# Altium schematic symbol library Sensor_Glove-X02.SchLib: 43 symbols
Pins are listed as number, name and electrical type; pins without a type are passive.

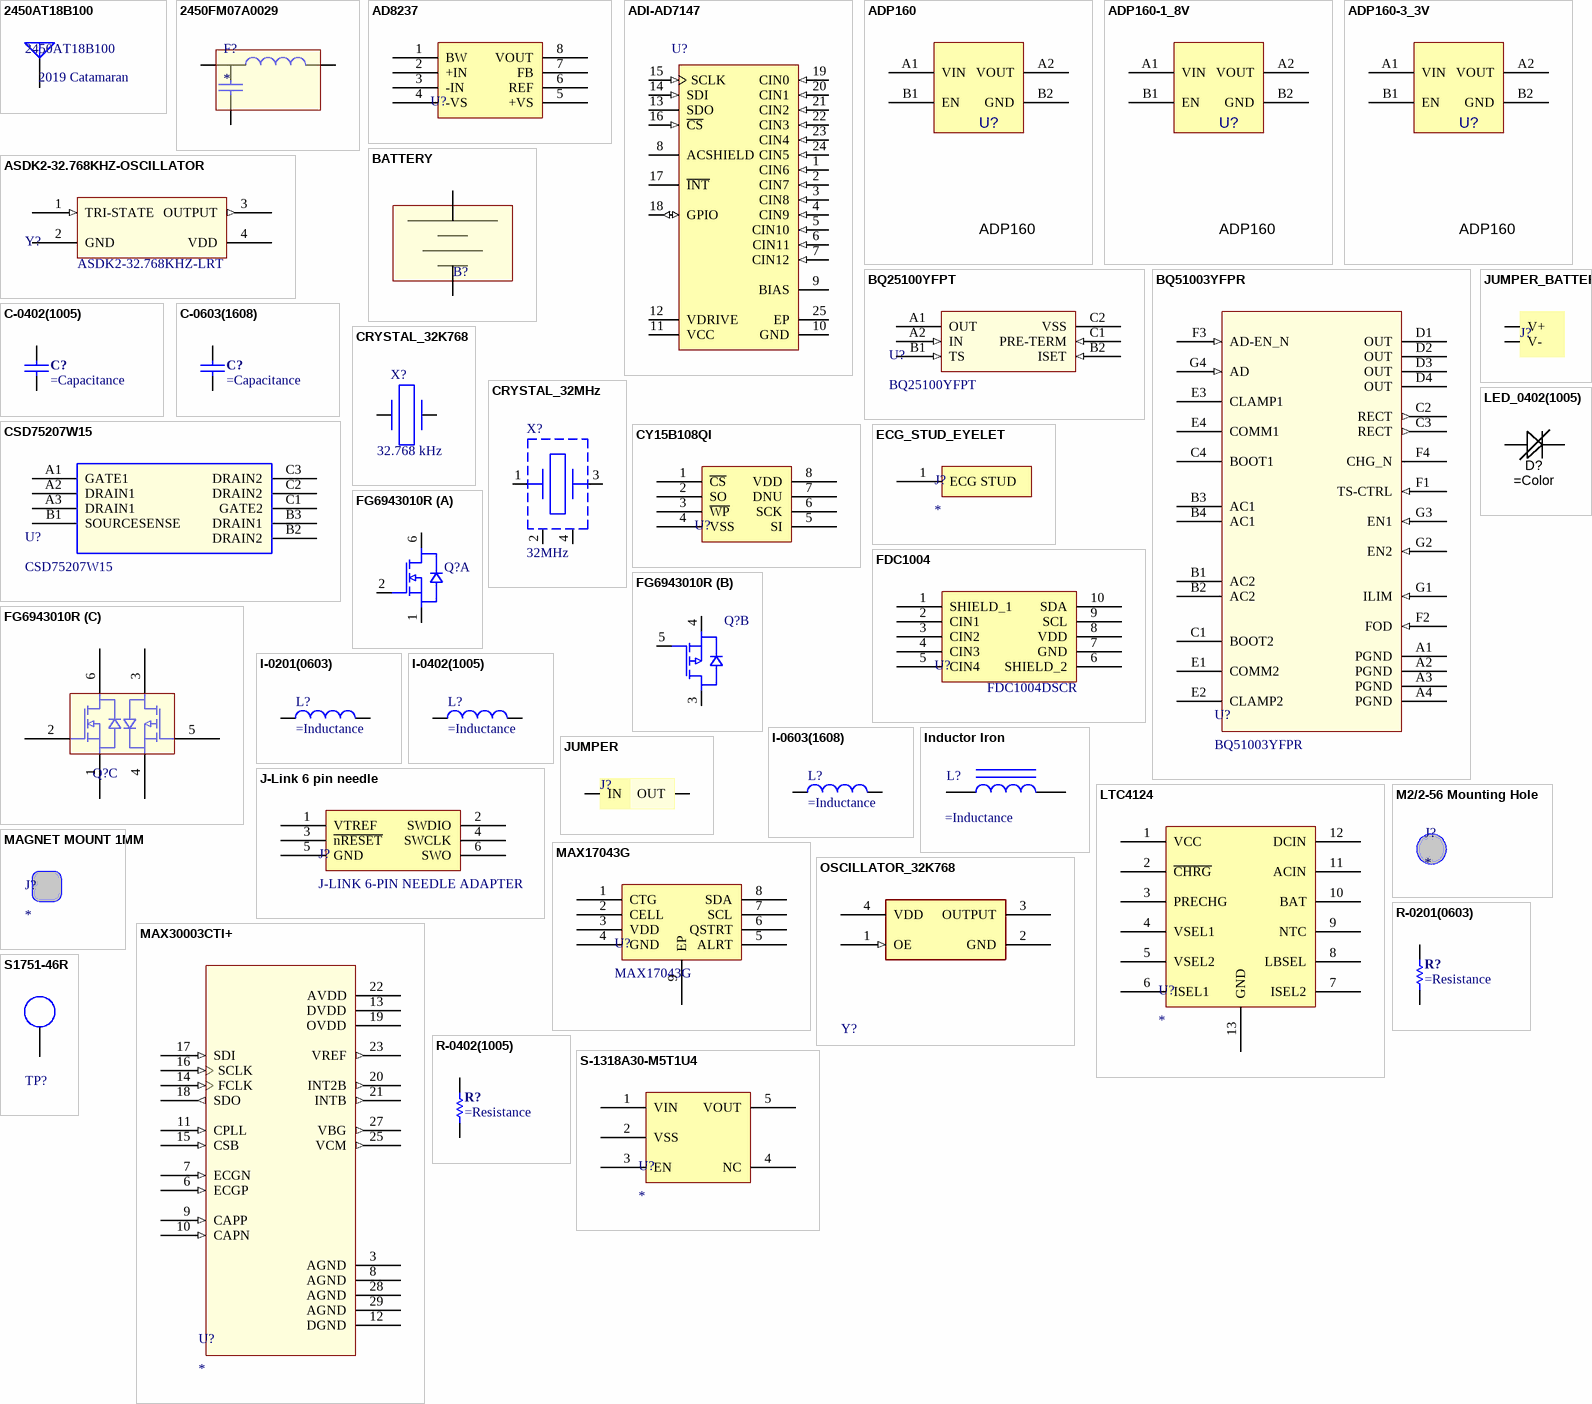
[diagram p0: symbols 2450AT18B100 to S-1318A30-M5T1U4]

## 2450AT18B100
designator 2019 Catamaran
2.4 GHz BLE Antenna; Manufacturer: Johanson; Manufacturer Part Number: 2450AT18B100E; Description 1: JOHANSON TECHNOLOGY         2450AT18B100E             ANTENNA, CERAMIC, 2.45GHZ; Impedance: 50R; Bandwidth: 100MHz; Power Rating: 3W; Frequency: 2.45GHz; Number of Bands: 1; Return Loss: -9.5dB; Max Frequency: 2.5GHz; Gain: -0.5dB; Supplier 1: Digi-Key; Supplier Part Number 1: 712-1006-1-ND; Stock 1: 187598; Pricing 1: 1=0.62, 10=0.541, 25=0.4788, 100=0.4172, 250=0.3631, 500=0.309, 1000=0.2472 (USD); Mount: Surface Mount; Case/Package: CSMD; Contact Plating: Tin; Packaging: Tape and Reel; Package Quantity: 1; Max Power Dissipation: 3W; Termination: Solder; Length: 3.2mm; Height: 0.051inch; Width: 1.6mm; REACH SVHC: No SVHC; ComponentLink1URL: https://datasheet.ciiva.com/1124/1318299-1124918.pdf; ComponentLink1Description: https://datasheet.ciiva.com/1124/1318299-1124918.pdf; ComponentLink2URL: https://datasheet.ciiva.com/24025/antenna-2450at18b100-242422-24025839.pdf; ComponentLink2Description: https://datasheet.ciiva.com/24025/antenna-2450at18b100-242422-24025839.pdf
footprint 2450AT18B100 (2.4GHz Mini Antenna SMD, 50 ohm Resistence)
pins: 1 A

## 2450FM07A0029
designator F?
Ceramic LPF; Manufacturer: Johanson; Manufacturer Part Number: 2450FM07A0029T; Supplier 1: Digi-Key; Supplier Part Number 1: 712-1623-1-ND; RoHS: No; Stock 1: 185913; Pricing 1: 1=0.26000, 10=0.23200, 25=0.21000, 100=0.18380, 250=0.16124, 500=0.14250, 1000=0.11250 (USD); Filter Type: CERAMIC LPF; REACH SVHC: Yes; RoHS Compliant: No; ComponentLink1URL: https://datasheet.ciiva.com:443/pdfs/VipMasterIC/IC/JOHA/JOHA-S-A0003593257/JOHA-S-A0003593257-1.pdf?src-supplier=IHS+Markit; ComponentLink1Description: https://datasheet.ciiva.com:443/pdfs/VipMasterIC/IC/JOHA/JOHA-S-A0003593257/JOHA-S-A0003593257-1.pdf?src-supplier=IHS+Markit; ComponentLink2URL: https://www.johansontechnology.com/datasheets/baluns/2450FM07A0029.pdf?src-supplier=Mouser; ComponentLink2Description: https://www.johansontechnology.com/datasheets/baluns/2450FM07A0029.pdf?src-supplier=Mouser; ComponentLink3URL: https://www.johansontechnology.com/datasheets/2450FM07A0029/2450FM07A0029.pdf?src-supplier=Digi-Key; ComponentLink3Description: https://www.johansontechnology.com/datasheets/2450FM07A0029/2450FM07A0029.pdf?src-supplier=Digi-Key
footprint 2450FM07A0029 (Ultra Miniature 2.45 GHz Impedance Matched Low Pass Filter for nRF52832)
pins: 1, 2, 3

## AD8237
designator U?, comment Instrumentation Amplifier  (value not drawn)
Instrumentation Amplifier, 1 Func, 75uV Offset-Max, 0.2MHz Band Width, CMOS, PDSO8; Manufacturer: Analog Devices; Manufacturer Part Number: AD8237ARMZ-R7; Common Mode Rejection Ratio: 106dB; Slew Rate: 0.15V/µs; Number of Channels: 1; Max Supply Voltage: 5.5V; Nominal Supply Current: 115uA; Input Bias Current: 250pA; Min Supply Voltage: 1.8V; Output Current per Channel: 4mA; Voltage Gain: 60dB; Bandwidth: 20kHz; -3db Bandwidth: 200kHz; Supplier 1: Digi-Key; Supplier Part Number 1: AD8237ARMZ-R7CT-ND; RoHS: Yes; Category: Amplifiers - Op Amps, Buffer, Instrumentation; Stock 1: 18084; Pricing 1: 1=2.68000, 10=2.40400, 25=2.27240, 100=1.86850, 250=1.67660, 500=1.61600 (USD); Mount: Surface Mount; Case/Package: MSOP; Number of Pins: 8; Contact Plating: Tin,Matte; Min Operating Temperature: -40°C; Max Operating Temperature: 125°C; Input Offset Voltage (Vos): 75uV; Packaging: Tape and Reel; Package Quantity: 1; Number of Circuits: 1; Operating Supply Current: 115uA; Number of Elements: 1; Lead Free: Contains Lead; ComponentLink1URL: https://datasheet.ciiva.com:443/pdfs/VipMasterIC/IC/ANDI/ANDIS13412/ANDIS13412-1.pdf?src-supplier=IHS+Markit; ComponentLink1Description: https://datasheet.ciiva.com:443/pdfs/VipMasterIC/IC/ANDI/ANDIS13412/ANDIS13412-1.pdf?src-supplier=IHS+Markit; ComponentLink2URL: https://datasheet.ciiva.com/6626/ad8237-6626733.pdf?src-supplier=Digi-Key; ComponentLink2Description: https://datasheet.ciiva.com/6626/ad8237-6626733.pdf?src-supplier=Digi-Key; ComponentLink3URL: https://datasheet.ciiva.com/8582/ad8237-8582303.pdf?src-supplier=Avnet; ComponentLink3Description: https://datasheet.ciiva.com/8582/ad8237-8582303.pdf?src-supplier=Avnet
footprint 8-MSOP (TSOP, 8-Leads, Body 3.1x3.1mm, Pitch 0.65mm, IPC Low Density)
pins: 1 BW, 2 +IN, 3 -IN, 4 -VS, 5 +VS, 6 REF, 7 FB, 8 VOUT

## ADI-AD7147
designator U?, comment CDC  (value not drawn)
Manufacturer: Analog Devices Inc.; Manufacturer Part Number: AD7147PACPZ-500R7; Resolution (Bits): 16 b; Sampling Rate (Per Second): 250k; Data Interface: SPI; Voltage Supply Source: Single Supply; Voltage - Supply: 2.6 V ~ 3.6 V; Supplier 1: Digi-Key; RoHS: RoHS Compliant; Category: Integrated Circuits (ICs); Stock 1: 559; Pricing 1: 1=3.6, 10=3.236, 100=2.6512 (USD); Packaging: Cut Tape (CT); Part Status: Active; Type: Capacitance-to-Digital Converter; Operating Temperature: -40°C ~ 85°C; Mounting Type: Surface Mount; Package / Case: 24-WFQFN Exposed Pad, CSP; Supplier Device Package: 24-LFCSP-WQ (4x4); ComponentLink1URL: http://www.analog.com/media/en/technical-documentation/data-sheets/AD7147.pdf; ComponentLink1Description: http://www.analog.com/media/en/technical-documentation/data-sheets/AD7147.pdf; Supplier Part Number 1: AD7147PACPZ-500R7CT-ND
footprint LFCSP_WQ (QFN, 24-Leads, Body 4x4mm, Pitch 0.5mm, Thermal Pad 2.5x2.5mm, IPC Medium Density)
pins: 1 CIN6 (in) "Capacitance Sensor Input.", 2 CIN7 (in) "Capacitance Sensor Input.", 3 CIN8 (in) "Capacitance Sensor Input.", 4 CIN9 (in) "Capacitance Sensor Input.", 5 CIN10 (in) "Capacitance Sensor Input.", 6 CIN11 (in) "Capacitance Sensor Input.", 7 CIN12 (in) "Capacitance Sensor Input.", 8 ACSHIELD "CDC Active Shield Output. Connect to external shield or plane.", 9 BIAS "Bias Node for Internal Circuitry. Requires 100 nF capacitor to ground.", 10 GND (power) "Ground Reference Point for All Circuitry.", 11 VCC (power) "Supply Voltage.", 12 VDRIVE (power) "Serial Interface Operating Voltage Supply.", 13 SDO (hiz) "SPI Serial Data Output.", 14 SDI (in) "SPI Serial Data Input.", 15 SCLK (in) "Clock Input for Serial Interface.", 16 ~{CS} (in) "SPI Chip Select Signal.", 17 ~{INT} (oc) "General-Purpose Open-Drain Interrupt Output. Programmable polarity; requires pull-up resistor.", 18 GPIO (io) "Programmable GPIO.", 19 CIN0 (in) "Capacitance Sensor Input.", 20 CIN1 (in) "Capacitance Sensor Input.", 21 CIN2 (in) "Capacitance Sensor Input.", 22 CIN3 (in) "Capacitance Sensor Input.", 23 CIN4 (in) "Capacitance Sensor Input.", 24 CIN5 (in) "Capacitance Sensor Input.", 25 EP (power) "Capacitance Sensor Input."

## ADP160
designator U?
3V LDO; Manufacturer: Analog Devices; Manufacturer Part Number: ADP160ACBZ-3.0-R7; Description 2: LDO Regulator Pos 3V 0.15A 4-Pin WLCSP T/R; Dropout Voltage: 105mV; Output Current: 150mA; Max Input Voltage: 5.5V; Min Input Voltage: 2.2V; Number of Outputs: 1; Min Current Limit: 220mA; Polarity: Positive; Accuracy: 2%; Nominal Supply Current: 42uA; Quiescent Current: 0pA; Power Supply Rejection Ratio (PSRR): 60dB; Min Output Voltage: 1.2V; Max Output Voltage: 4.2V; Supplier Part Number 1: ADP172ACBZ-3.0-R7CT-ND; Supplier 2: Digi-Key; Supplier Part Number 2: ADP160ACBZ-3.0-R7CT-ND; Stock 2: 5241; Pricing 2: 1=1.16, 10=1.033, 100=0.8055, 500=0.6654, 1000=0.5253 (USD); Mount: Surface Mount; Number of Pins: 4; Contact Plating: Copper,Tin,Silver; Min Operating Temperature: -40°C; Max Operating Temperature: 125°C; Package Quantity: 3000; Packaging: Tape and Reel; Max Output Current: 150mA; Output Voltage: 3V; Number of Regulators: 1; Operating Supply Current: 42uA; Max Supply Current: 42uA; Radiation Hardening: No; Lead Free: Contains Lead; ComponentLink1URL: https://datasheet.ciiva.com/8242/adp160-161-162-163-8242023.pdf; ComponentLink1Description: https://datasheet.ciiva.com/8242/adp160-161-162-163-8242023.pdf; ComponentLink2URL: https://datasheet.ciiva.com/3224/adp160-161-162-163-3224664.pdf; ComponentLink2Description: https://datasheet.ciiva.com/3224/adp160-161-162-163-3224664.pdf; ComponentLink3URL: https://datasheet.ciiva.com/17365/adp160-161-162-163-17365674.pdf; ComponentLink3Description: https://datasheet.ciiva.com/17365/adp160-161-162-163-17365674.pdf
footprint ADP160 (4-Ball WLCSP, CB-4-4)
pins: A1 VIN, A2 VOUT, B1 EN, B2 GND

## ADP160-1_8V
designator U?, comment ADP160
Fixed Positive LDO Regulator, 1.8V, 0.195V Dropout, CMOS, PBGA4; Manufacturer: Analog Devices; Manufacturer Part Number: ADP160ACBZ-1.8-R7; Max Output Current: 150mA; Min Input Voltage: 2.2V; Max Input Voltage: 5.5V; Number of Outputs: 1; Operating Supply Current: 42uA; Min Output Voltage: 1.2V; Max Output Voltage: 4.2V; Accuracy: 2%; Power Supply Rejection Ratio (PSRR): 60dB; Min Current Limit: 220mA; Quiescent Current: 0pA; Supplier 1: Digi-Key; Supplier Part Number 1: ADP160ACBZ-1.8-R7CT-ND; RoHS: Yes; Category: Voltage Regulators - Linear; Stock 1: 5770; Pricing 1: 1=1.12000, 10=1.00300, 25=0.95200, 100=0.73100, 250=0.64600, 500=0.61200, 1000=0.49300 (USD); Mount: Surface Mount; Number of Pins: 4; Contact Plating: Copper,Tin,Silver; Min Operating Temperature: -40°C; Max Operating Temperature: 125°C; Output Voltage: 1.8V; Packaging: Tape and Reel; Output Current: 150mA; Nominal Supply Current: 42uA; Output Type: Fixed; Polarity: Positive; Max Supply Current: 42uA; Number of Regulators: 1; Package Quantity: 1; Output Voltage Accuracy: 2%; Length: 1mm; Height: 0.37mm; Width: 1mm; Radiation Hardening: No; Lead Free: Contains Lead; ComponentLink1URL: https://datasheet.ciiva.com:443/pdfs/VipMasterIC/IC/ANDI/ANDI-S-A0005865400/ANDI-S-A0005865400-1.pdf?src-supplier=IHS+Markit; ComponentLink1Description: https://datasheet.ciiva.com:443/pdfs/VipMasterIC/IC/ANDI/ANDI-S-A0005865400/ANDI-S-A0005865400-1.pdf?src-supplier=IHS+Markit; ComponentLink2URL: https://datasheet.ciiva.com/15270/adp160-161-162-163-15270706.pdf?src-supplier=Arrow+Europe; ComponentLink2Description: https://datasheet.ciiva.com/15270/adp160-161-162-163-15270706.pdf?src-supplier=Arrow+Europe; ComponentLink3URL: https://datasheet.ciiva.com/18552/adp160-161-162-163-18552055.pdf?src-supplier=Digi-Key; ComponentLink3Description: https://datasheet.ciiva.com/18552/adp160-161-162-163-18552055.pdf?src-supplier=Digi-Key; ComponentLink4URL: https://datasheet.ciiva.com/18552/adp160-161-162-163-18552056.pdf?src-supplier=Digi-Key; ComponentLink4Description: https://datasheet.ciiva.com/18552/adp160-161-162-163-18552056.pdf?src-supplier=Digi-Key; ComponentLink5URL: https://datasheet.ciiva.com/18552/adp160-161-162-163-18552054.pdf?src-supplier=Digi-Key; ComponentLink5Description: https://datasheet.ciiva.com/18552/adp160-161-162-163-18552054.pdf?src-supplier=Digi-Key; ComponentLink6URL: https://datasheet.ciiva.com/3224/adp160-161-162-163-3224663.pdf?src-supplier=Avnet; ComponentLink6Description: https://datasheet.ciiva.com/3224/adp160-161-162-163-3224663.pdf?src-supplier=Avnet
footprint ADP160 (4-Ball WLCSP, CB-4-4)
pins: A1 VIN, A2 VOUT, B1 EN, B2 GND

## ADP160-3_3V
designator U?, comment ADP160
Fixed Positive LDO Regulator, 3.3V, 0.195V Dropout, CMOS, PBGA4; Manufacturer: Analog Devices; Manufacturer Part Number: ADP160ACBZ-3.3-R7; Min Input Voltage: 2.2V; Max Input Voltage: 5.5V; Max Output Current: 150mA; Nominal Supply Current: 42uA; Number of Outputs: 1; Min Output Voltage: 1.2V; Max Output Voltage: 4.2V; Power Supply Rejection Ratio (PSRR): 60dB; Accuracy: 2%; Dropout Voltage: 105mV; Min Current Limit: 220mA; Supplier 1: Digi-Key; Supplier Part Number 1: ADP160ACBZ-3.3-R7CT-ND; RoHS: Yes; Category: Voltage Regulators - Linear; Pricing 1: 1=1.12000, 10=1.00300, 25=0.95200, 100=0.73100, 250=0.64600, 500=0.61200, 1000=0.49300 (USD); Mount: Surface Mount; Number of Pins: 4; Min Operating Temperature: -40°C; Max Operating Temperature: 125°C; Output Voltage: 3.3V; Packaging: Tape and Reel; Operating Supply Current: 42uA; Package Quantity: 3000; Output Current: 150mA; Output Type: Fixed; Max Supply Current: 42uA; Polarity: Positive; Number of Regulators: 1; Nominal Output Voltage: 3.3V; Output Voltage Accuracy: 2%; Radiation Hardening: No; REACH SVHC: No SVHC; Lead Free: Contains Lead; ComponentLink1URL: https://datasheet.ciiva.com:443/pdfs/VipMasterIC/IC/ANDI/ANDI-S-A0005865400/ANDI-S-A0005865400-1.pdf?src-supplier=IHS+Markit; ComponentLink1Description: https://datasheet.ciiva.com:443/pdfs/VipMasterIC/IC/ANDI/ANDI-S-A0005865400/ANDI-S-A0005865400-1.pdf?src-supplier=IHS+Markit; ComponentLink2URL: https://datasheet.ciiva.com/15271/adp160-161-162-163-15271721.pdf?src-supplier=Arrow+Europe; ComponentLink2Description: https://datasheet.ciiva.com/15271/adp160-161-162-163-15271721.pdf?src-supplier=Arrow+Europe; ComponentLink3URL: https://datasheet.ciiva.com/8242/adp160-161-162-163-8242024.pdf?src-supplier=Avnet; ComponentLink3Description: https://datasheet.ciiva.com/8242/adp160-161-162-163-8242024.pdf?src-supplier=Avnet; ComponentLink4URL: https://datasheet.ciiva.com/18552/adp160-161-162-163-18552347.pdf?src-supplier=Digi-Key; ComponentLink4Description: https://datasheet.ciiva.com/18552/adp160-161-162-163-18552347.pdf?src-supplier=Digi-Key; ComponentLink5URL: https://datasheet.ciiva.com/18552/adp160-161-162-163-18552348.pdf?src-supplier=Digi-Key; ComponentLink5Description: https://datasheet.ciiva.com/18552/adp160-161-162-163-18552348.pdf?src-supplier=Digi-Key; ComponentLink6URL: https://datasheet.ciiva.com/18552/adp160-161-162-163-18552349.pdf?src-supplier=Digi-Key; ComponentLink6Description: https://datasheet.ciiva.com/18552/adp160-161-162-163-18552349.pdf?src-supplier=Digi-Key
footprint ADP160 (4-Ball WLCSP, CB-4-4)
pins: A1 VIN, A2 VOUT, B1 EN, B2 GND

## ASDK2-32.768KHZ-OSCILLATOR
designator Y?  Manufacturer Part Number: ASDK2-32.768KHZ-LRT  (hidden comment: *)
OSC XO 32.768KHZ CMOS SMD; Manufacturer: Abracon; Max Supply Current: 1.5mA; Frequency Stability: 25ppm; Load Capacitance: 15pF; Operating Supply Voltage: 1.8V; Max Supply Voltage: 1.89V; Min Supply Voltage: 1.71V; Supplier 1: Digi-Key; Supplier Part Number 1: 535-10003-1-ND; RoHS: Yes; Category: Oscillators; Stock 1: 1710; Pricing 1: 1=3.47000, 10=3.30000, 50=3.13500, 100=2.80500, 500=2.64000 (USD); Mount: Surface Mount; Case/Package: CSMD; Number of Pins: 4; Min Operating Temperature: -40°C; Max Operating Temperature: 85°C; Packaging: Tape and Reel; Termination: SMD/SMT; Frequency: 32.768kHz; Length: 2.5mm; Height: 0.037inch; Depth: 2mm; Width: 0.079inch; Radiation Hardening: No; Lead Free: Lead Free; ComponentLink1URL: https://datasheet.ciiva.com/870/asdk-870676.pdf?src-supplier=Digi-Key; ComponentLink1Description: https://datasheet.ciiva.com/870/asdk-870676.pdf?src-supplier=Digi-Key; ComponentLink2URL: https://datasheet.ciiva.com/870/asdk-870675.pdf?src-supplier=Digi-Key; ComponentLink2Description: https://datasheet.ciiva.com/870/asdk-870675.pdf?src-supplier=Digi-Key; ComponentLink3URL: https://datasheet.ciiva.com/16414/asdk-16414382.pdf?src-supplier=Future+Electronics; ComponentLink3Description: https://datasheet.ciiva.com/16414/asdk-16414382.pdf?src-supplier=Future+Electronics; ComponentLink4URL: https://datasheet.ciiva.com/870/asdk-870674.pdf?src-supplier=Digi-Key; ComponentLink4Description: https://datasheet.ciiva.com/870/asdk-870674.pdf?src-supplier=Digi-Key; ComponentLink5URL: https://datasheet.ciiva.com/13142/asdk-24348-13142202.pdf?src-supplier=Mouser; ComponentLink5Description: https://datasheet.ciiva.com/13142/asdk-24348-13142202.pdf?src-supplier=Mouser
footprint ASDK-4-PIN, 2.5MM X 2.0MM
pins: 1 TRI-STATE (in), 2 GND, 3 OUTPUT (out), 4 VDD

## BATTERY
designator B?, comment 40 mAh BATTERY  (value not drawn)
Lithium Battery 3.7V 40mAh Rechargeable; Manufacturer: SparkFun; Manufacturer Part Number: PRT-13852; Supplier 1: Digi-Key; RoHS: No; Stock 1: 237; Pricing 1: 1=4.50000 (USD); Weight: 5g; Voltage Rating: 3.7V; Capacity: 40mAh; Termination: Connector; ComponentLink1URL: http://cdn.sparkfun.com/datasheets/Prototyping/SPE-00-301120-40mah-en-1.0ver.pdf?src-supplier=Digi-Key; ComponentLink1Description: http://cdn.sparkfun.com/datasheets/Prototyping/SPE-00-301120-40mah-en-1.0ver.pdf?src-supplier=Digi-Key; Supplier Part Number 1: 1568-1496-ND
footprint BATTERY

## BQ25100YFPT
designator U?
Power Supply Support Circuit; Manufacturer: Texas Instruments; Output Voltage: 4.35V; Operating Supply Current: 75nA; Fault Protection: Over Voltage,Over Temperature,Short Circuit; Max Charge Current: 250mA; Battery Pack Voltage: 4.2V; Number of Cells: 1; Max Supply Voltage: 6.45V; Min Supply Voltage: 3.5V; Supplier 1: Digi-Key; Supplier Part Number 1: 296-38373-1-ND; Manufacturer Part Number: BQ25100YFPT; RoHS: Yes; Category: Batteries and Accessories; Stock 1: 3049; Pricing 1: 1=2.24000, 10=2.01100, 25=1.89760, 100=1.51800 (USD); Mount: Surface Mount; Number of Pins: 6; Weight: 6E-05oz; Contact Plating: Copper,Tin,Silver; Min Operating Temperature: -40°C; Max Operating Temperature: 85°C; Package Quantity: 250; Packaging: Tape and Reel; Output Current: 250mA; Lead Free: Lead Free; REACH SVHC: No SVHC; ComponentLink1URL: https://www.ti.com:443/lit/ds/symlink/bq25100.pdf?src-supplier=IHS+Markit; ComponentLink1Description: https://www.ti.com:443/lit/ds/symlink/bq25100.pdf?src-supplier=IHS+Markit; ComponentLink2URL: https://datasheet.ciiva.com/46404/1854517-46404758.pdf?src-supplier=Element14; ComponentLink2Description: https://datasheet.ciiva.com/46404/1854517-46404758.pdf?src-supplier=Element14
footprint YZP0006 (BGA, 6-Balls, Body 1.388x0.888mm, Pitch 0.4mm)
pins: A1 OUT (power), A2 IN (in), B1 TS (in), B2 ISET (in), C1 PRE-TERM (in), C2 VSS (power)

## BQ51003YFPR
designator U?
Telecom Circuit, 1-Func; Manufacturer: Texas Instruments; Output Voltage: 5V; Output Current: 500mA; Operating Supply Voltage: 10V; Logic Function: Receiver; Supplier 1: Digi-Key; Supplier Part Number 1: 296-39952-1-ND; Manufacturer Part Number: BQ51003YFPR; RoHS: Yes; Category: Power Management ICs; Stock 1: 9631; Pricing 1: 1=3.00000, 10=2.71000, 25=2.42000, 100=2.17800, 250=1.93600, 500=1.69400, 1000=1.40360 (USD); Mount: Surface Mount; Number of Pins: 28; Contact Plating: Copper,Tin,Silver; Min Operating Temperature: -40°C; Max Operating Temperature: 85°C; Package Quantity: 3000; Operating Supply Current: 500mA; Packaging: Tape and Reel; Lead Free: Lead Free; ComponentLink1URL: https://www.ti.com:443/lit/ds/symlink/bq51003.pdf?src-supplier=IHS+Markit; ComponentLink1Description: https://www.ti.com:443/lit/ds/symlink/bq51003.pdf?src-supplier=IHS+Markit; ComponentLink2URL: https://datasheet.ciiva.com/29899/bq51003-29899460.pdf?src-supplier=Avnet; ComponentLink2Description: https://datasheet.ciiva.com/29899/bq51003-29899460.pdf?src-supplier=Avnet; ComponentLink3URL: https://datasheet.ciiva.com/29590/bq51003-29590175.pdf?src-supplier=Digi-Key; ComponentLink3Description: https://datasheet.ciiva.com/29590/bq51003-29590175.pdf?src-supplier=Digi-Key
footprint YFP0028 (BGA, 28-Balls, Body 3x1.88mm, Pitch 0.4mm)
pins: A1 PGND (power), A2 PGND (power), A3 PGND (power), A4 PGND (power), B1 AC2 (power), B2 AC2 (power), B3 AC1 (power), B4 AC1 (power), C1 BOOT2 (power), C2 RECT (out), C3 RECT (out), C4 BOOT1 (power), D1 OUT (power), D2 OUT (power), D3 OUT (power), D4 OUT (power), E1 COMM2 (oc), E2 CLAMP2 (oc), E3 CLAMP1 (oc), E4 COMM1 (oc), F1 TS-CTRL (in), F2 FOD (in), F3 AD-EN_N (in), F4 CHG_N (oc), G1 ILIM (in), G2 EN2 (in), G3 EN1 (in), G4 AD (in)

## C-0402(1005)
designator C?
___ OHM ___ mW 0402(1005) SMD; ComponentLink1URL: https://datasheet.ciiva.com/169/product-169683.pdf; ComponentLink1Description: https://datasheet.ciiva.com/169/product-169683.pdf
footprint C0402
pins: 1, 2

## C-0603(1608)
designator C?
___ OHM ___ mW 0603(1608) SMD; ComponentLink1URL: https://datasheet.ciiva.com/169/product-169683.pdf; ComponentLink1Description: https://datasheet.ciiva.com/169/product-169683.pdf
footprint C0603
pins: 1, 2

## CRYSTAL_32K768
designator X?, comment 32.768 kHz
Parallel - Fundamental Quartz Crystal, 0.032768MHz Nom; Manufacturer: ECS International; Manufacturer Part Number: ECS-.327-9-1210-TR; Frequency Tolerance: 20ppm; Load Capacitance: 9pF; ESR (Equivalent Series Resistance): 90kR; Supplier 1: Digi-Key; Supplier Part Number 1: XC2283CT-ND; RoHS: No; Category: Crystals and Oscillators; Stock 1: 5205; Pricing 1: 1=1.52000, 10=1.45400, 50=1.42060, 100=1.21770, 500=1.18388, 1000=0.99784, 2500=0.94710 (USD); Mount: Surface Mount; Case/Package: SMD/SMT; Min Operating Temperature: -40°C; Max Operating Temperature: 85°C; Packaging: Tape and Reel; Frequency: 32.768kHz; ComponentLink1URL: https://datasheet.ciiva.com:443/pdfs/VipMasterIC/IC/ECSI/ECSI-S-A0009254912/ECSI-S-A0009254912-1.pdf?src-supplier=IHS+Markit; ComponentLink1Description: https://datasheet.ciiva.com:443/pdfs/VipMasterIC/IC/ECSI/ECSI-S-A0009254912/ECSI-S-A0009254912-1.pdf?src-supplier=IHS+Markit; ComponentLink2URL: https://www.ecsxtal.com/store/pdf/ECX-1210.pdf?src-supplier=Digi-Key; ComponentLink2Description: https://www.ecsxtal.com/store/pdf/ECX-1210.pdf?src-supplier=Digi-Key
footprint CRYSTAL_1MM2_X_1MM0 (Crystal 1.2 x 1.0 x 0.35mm)
pins: 1, 2

## CRYSTAL_32MHz
designator X?, comment 32MHz
Parallel - Fundamental Quartz Crystal, 32MHz Nom; Manufacturer: Diodes; Manufacturer Part Number: US3200005Z; Load Capacitance: 8pF; ESR (Equivalent Series Resistance): 80R; Frequency Stability: 10ppm; Supplier 1: Mouser; Supplier Part Number 1: 729-US3200005Z; RoHS: Yes; Category: Crystals; Stock 1: 689; Pricing 1: 1=1.30000, 10=1.22000, 100=1.05000, 500=1.02000, 1000=0.85400, 3000=0.82900 (USD); Mount: Surface Mount; Case/Package: SMD/SMT; Min Operating Temperature: -20°C; Max Operating Temperature: 70°C; Packaging: Tape and Reel; Frequency: 32MHz; Frequency Tolerance: 10ppm; Length: 0.063inch; Height: 0.014inch; Width: 0.047inch; ComponentLink1URL: https://datasheet.ciiva.com:443/pdfs/VipMasterIC/IC/DIOD/DIOD-S-A0002236499/DIOD-S-A0002236499-1.pdf?src-supplier=IHS+Markit; ComponentLink1Description: https://datasheet.ciiva.com:443/pdfs/VipMasterIC/IC/DIOD/DIOD-S-A0002236499/DIOD-S-A0002236499-1.pdf?src-supplier=IHS+Markit; ComponentLink2URL: https://media.digikey.com/pdf/Data%20Sheets/Pericom%20PDFs/US3200005Z_Ver.A.pdf?src-supplier=Digi-Key; ComponentLink2Description: https://media.digikey.com/pdf/Data%20Sheets/Pericom%20PDFs/US3200005Z_Ver.A.pdf?src-supplier=Digi-Key
footprint CRYSTAL_1MM6_X_1MM2 (1.6 x 1.2 x 0.35mm 4-pin crystal)
pins: 1, 2 GND, 3, 4 GND

## CSD75207W15
designator U?
Small Signal Field-Effect Transistor, P-Channel, Metal-oxide Semiconductor FET; Manufacturer: Texas Instruments; Gate to Source Voltage (Vgs): -6V; Rise Time: 8.6ns; Rds On Max: 162mR; Input Capacitance: 595pF; Drain to Source Resistance: 27mR; Continuous Drain Current (ID): 3.9A; Max Power Dissipation: 700mW; Turn-On Delay Time: 12.8ns; Turn-Off Delay Time: 32.1ns; Fall Time: 16ns; Supplier 1: Digi-Key; Supplier Part Number 1: 296-40008-1-ND; Manufacturer Part Number: CSD75207W15; RoHS: Yes; Category: MOSFETs; Stock 1: 8699; Pricing 1: 1=0.62000, 10=0.54500, 25=0.51160, 100=0.37130, 250=0.35804, 500=0.31020, 1000=0.26400 (USD); Mount: Surface Mount; Number of Pins: 9; Contact Plating: Copper,Tin,Silver; Min Operating Temperature: -55°C; Max Operating Temperature: 150°C; Packaging: Tape and Reel; Package Quantity: 3000; Lead Free: Lead Free; ComponentLink1URL: https://www.ti.com:443/lit/ds/symlink/csd75207w15.pdf?src-supplier=IHS+Markit; ComponentLink1Description: https://www.ti.com:443/lit/ds/symlink/csd75207w15.pdf?src-supplier=IHS+Markit; ComponentLink2URL: https://datasheet.ciiva.com/24012/slps418-267251-24012416.pdf?src-supplier=Mouser; ComponentLink2Description: https://datasheet.ciiva.com/24012/slps418-267251-24012416.pdf?src-supplier=Mouser; ComponentLink3URL: https://datasheet.ciiva.com/30021/csd75207w15-30021933.pdf?src-supplier=Avnet; ComponentLink3Description: https://datasheet.ciiva.com/30021/csd75207w15-30021933.pdf?src-supplier=Avnet
footprint YZF0009 (9-Ball DSBGA, YZF0009)
pins: A1 GATE1, A2 DRAIN1, A3 DRAIN1, B1 SOURCESENSE, B2 DRAIN2, B3 DRAIN1, C1 GATE2, C2 DRAIN2, C3 DRAIN2

## CY15B108QI
designator U?, comment 8 MB FRAM  (value not drawn)
Memory Circuit, 8 MB FRAM; Manufacturer: Cypress; Manufacturer Part Number: CY15B108QI-20LPXI; Supplier 1: Digi-Key; Supplier Part Number 1: 428-4721-ND; RoHS: No; Category: Memory; Stock 1: 1421; Pricing 1: 1=32.50000, 10=30.55500, 25=29.50560, 50=28.56820, 100=25.13780, 250=24.46300, 500=23.71318, 1000=23.43200 (USD); ComponentLink1URL: https://datasheet.ciiva.com:443/pdfs/VipMasterIC/IC/CYPR/CYPR-S-A0008987076/CYPR-S-A0008987076-1.pdf?src-supplier=IHS+Markit; ComponentLink1Description: https://datasheet.ciiva.com:443/pdfs/VipMasterIC/IC/CYPR/CYPR-S-A0008987076/CYPR-S-A0008987076-1.pdf?src-supplier=IHS+Markit
footprint GQFN-8 (3.23MM X 3.28MM X 0.5MM)
pins: 1 ~{CS}, 2 SO, 3 ~{WP}, 4 VSS, 5 SI, 6 SCK, 7 DNU, 8 VDD

## ECG_STUD_EYELET
designator J?
996 Stud/Eyelet combination, LUF: 3.25mm/6.25mm, O.D.: 10.25mm, https://www.romed.com/medical-electrical-snap-fasteners.aspx
footprint ECG_STUD (996 STUD/EYELET COMBO)
pins: 1 ECG STUD

## FDC1004
designator U?, comment Manufacturer Part Number: FDC1004DSCR  (hidden comment: 4 CHANNEL CDC)
Analog Circuit, 1 Func, 4 Channel, PDSO10; Manufacturer: Texas Instruments; Interface: I2C; Number of Inputs: 4; Supplier 1: Digi-Key; RoHS: Yes; Category: Integrated Circuits (ICs); Stock 1: 1027; Pricing 1: 1=7.13000, 5=6.25000, 10=5.62500, 25=5.00000, 50=4.62500, 100=4.00000, 500=3.75000 (USD); Number of Pins: 10; Min Operating Temperature: -40°C; Max Operating Temperature: 125°C; Packaging: Tape and Reel; Radiation Hardening: No; Lead Free: Lead Free; ComponentLink1URL: https://www.ti.com:443/lit/ds/symlink/fdc1004.pdf?src-supplier=IHS+Markit; ComponentLink1Description: https://www.ti.com:443/lit/ds/symlink/fdc1004.pdf?src-supplier=IHS+Markit; ComponentLink2URL: https://datasheet.ciiva.com/48512/fdc1004-48512055.pdf?src-supplier=Avnet; ComponentLink2Description: https://datasheet.ciiva.com/48512/fdc1004-48512055.pdf?src-supplier=Avnet; Supplier Part Number 1: 296-46090-1-ND
footprint WSON-10 3X3MM (SON, 10-Leads, Body 3x3 mm, Pitch 0.5mm)
pins: 1 SHIELD_1, 2 CIN1, 3 CIN2, 4 CIN3, 5 CIN4, 6 SHIELD_2, 7 GND, 8 VDD, 9 SCL, 10 SDA

## FG6943010R
designator Q?, comment dual fet SSMini6  (value not drawn)
Small Signal Field-Effect Transistor, 0.1A I(D), 30V, 2-Element, N-Channel and P-Channel, Silicon, Metal-oxide Semiconductor FET; Manufacturer: Panasonic; Manufacturer Part Number: FG6943010R; Gate to Source Voltage (Vgs): 12V; Nominal Vgs: 1V; Continuous Drain Current (ID): 100mA; Drain to Source Resistance: 17R; Drain to Source Breakdown Voltage: -30V; Input Capacitance: 12pF; Turn-Off Delay Time: 100ns; Max Power Dissipation: 125mW; FET Type: N and P-Channel; Supplier 1: Digi-Key; Supplier Part Number 1: FG6943010RCT-ND; RoHS: Yes; Category: MOSFETs; Stock 1: 99570; Pricing 1: 1=0.47000, 10=0.35000, 25=0.30600, 100=0.16600, 250=0.16516, 500=0.13544, 1000=0.10049, 2500=0.08825 (USD); Mount: Surface Mount; Case/Package: SOT-666; Number of Pins: 6; Min Operating Temperature: -40°C; Max Operating Temperature: 85°C; Element Configuration: Dual; Drain to Source Voltage (Vdss): 30V; Package Quantity: 8000; Packaging: Tape and Reel; Threshold Voltage: 1V; Turn-On Delay Time: 100ns; Length: 1.6mm; Height: 0.5mm; Width: 1.2mm; REACH SVHC: No SVHC; ComponentLink1URL: https://datasheet.ciiva.com:443/pdfs/VipMasterIC/IC/PANA/PANA-S-A0005608172/PANA-S-A0005632448-1.pdf?src-supplier=IHS+Markit; ComponentLink1Description: https://datasheet.ciiva.com:443/pdfs/VipMasterIC/IC/PANA/PANA-S-A0005608172/PANA-S-A0005632448-1.pdf?src-supplier=IHS+Markit; ComponentLink2URL: https://datasheet.ciiva.com/7643/fg694301-bed-7643088.pdf?src-supplier=Element14; ComponentLink2Description: https://datasheet.ciiva.com/7643/fg694301-bed-7643088.pdf?src-supplier=Element14; ComponentLink3URL: https://datasheet.ciiva.com/4438/fg694301-aed-24763-4438613.pdf?src-supplier=Mouser; ComponentLink3Description: https://datasheet.ciiva.com/4438/fg694301-aed-24763-4438613.pdf?src-supplier=Mouser; ComponentLink4URL: https://datasheet.ciiva.com/22646/1912012-22646613.pdf?src-supplier=Element14; ComponentLink4Description: https://datasheet.ciiva.com/22646/1912012-22646613.pdf?src-supplier=Element14
footprint SSMini6-F3-B (1.6 x 1.2mm SMD for NMOS + PMOS array)
part A pins: 1 S, 2 G, 6 D
part B pins: 3 D, 4 S, 5 G
part C pins: 1 S, 2 G, 3 D, 4 S, 5 G, 6 D

## I-0201(0603)
designator L?
footprint L0201 (Experimental)
pins: 1, 2

## I-0402(1005)
designator L?
footprint L0402
pins: 1, 2

## I-0603(1608)
designator L?
footprint L0603 (surface mount inductor 0603)
pins: 1, 2

## Inductor Iron
designator L?
Magnetic-Core Inductor
footprint L0402
pins: 1, 2

## J-Link 6 pin needle
designator J?, comment J-LINK 6-PIN NEEDLE ADAPTER
Manufacturer: Segger; Manufacturer Part Number: 8.06.16 J-LINK 6-PIN NEEDLE ADAPTER; Supplier 1: Digi-Key; RoHS: No; Stock 1: 177; Pricing 1: 1=104.13000 (USD); Supplier Part Number 1: 899-1051-ND
footprint J-LINK 6 PIN NEEDLE (J-LINK 6 PIN NEEDLE ADAPTER)
pins: 1 VTREF, 2 SWDIO, 3 ~{nRESET}, 4 SWCLK, 5 GND, 6 SWO

## JUMPER
designator J?  (value not drawn)
SHUNT LP W/HANDLE 2 POS 30AU; Manufacturer: TE Connectivity; Manufacturer Part Number: 8815452; Number of Contacts: 2; Contact Current Rating: 3A; Contact Resistance: 15mR; Gender: Female; Pitch: 2.54mm; Approvals: UL,CSA; Supplier 1: Digi-Key; Supplier Part Number 1: A26242-ND; RoHS: Yes; Category: Headers and Wire Housings; Stock 1: 2099; Pricing 1: 1=0.280000, 10=0.262000, 25=0.223600, 50=0.195600, 100=0.181700, 250=0.160760, 500=0.153760, 1000=0.125800, 2500=0.115320 (USD); Contact Plating: Gold; Housing Color: Black; Housing Material: Thermoplastic; Contact Material: Bronze; Color: Black; Min Operating Temperature: -65°C; Max Operating Temperature: 105°C; Number of Rows: 1; Package Quantity: 14000; Packaging: Bag; Orientation: Straight; Number of Positions: 2; Contact Gender: Female; Current Rating: 3A; Termination: Solder; Length: 5.08mm; Height: 10.9mm; Depth: 10.9mm; Width: 2.5mm; Radiation Hardening: No; Flammability Rating: UL94 V-0; REACH SVHC: No SVHC; ComponentLink1URL: https://datasheet.ciiva.com/1455/92946-1455888.pdf?src-supplier=Newark; ComponentLink1Description: https://datasheet.ciiva.com/1455/92946-1455888.pdf?src-supplier=Newark; ComponentLink2URL: https://datasheet.ciiva.com/19459/841467-19459897.pdf?src-supplier=Jameco; ComponentLink2Description: https://datasheet.ciiva.com/19459/841467-19459897.pdf?src-supplier=Jameco; ComponentLink3URL: https://datasheet.ciiva.com/15174/getdatasheetpartid-155768-15174939.pdf?src-supplier=Verical; ComponentLink3Description: https://datasheet.ciiva.com/15174/getdatasheetpartid-155768-15174939.pdf?src-supplier=Verical; ComponentLink4URL: https://datasheet.ciiva.com/11754/0900766b80da19e8-11754990.pdf?src-supplier=RSComponents; ComponentLink4Description: https://datasheet.ciiva.com/11754/0900766b80da19e8-11754990.pdf?src-supplier=RSComponents; ComponentLink5URL: https://datasheet.ciiva.com/30154/eng-cs-1307819-section-6-7and8-0808-30154293.pdf?src-supplier=Onlinecomponents.com; ComponentLink5Description: https://datasheet.ciiva.com/30154/eng-cs-1307819-section-6-7and8-0808-30154293.pdf?src-supplier=Onlinecomponents.com; ComponentLink6URL: https://datasheet.ciiva.com/767/eng-cd-881545-k3-767850.pdf?src-supplier=Digi-Key; ComponentLink6Description: https://datasheet.ciiva.com/767/eng-cd-881545-k3-767850.pdf?src-supplier=Digi-Key; ComponentLink7URL: https://datasheet.ciiva.com/3120/eng-cs-1307819-section-6-7and8-0808-3120202.pdf?src-supplier=Avnet; ComponentLink7Description: https://datasheet.ciiva.com/3120/eng-cs-1307819-section-6-7and8-0808-3120202.pdf?src-supplier=Avnet
footprint JUMPER
pins: 1 IN, 2 OUT

## JUMPER_BATTERY
designator J?, comment JUMPER WITH 40 mAh BATTERY  (value not drawn)
Lithium Battery 3.7V 40mAh Rechargeable; Manufacturer: SparkFun; Manufacturer Part Number: PRT-13852; Supplier 1: Digi-Key; RoHS: No; Stock 1: 237; Pricing 1: 1=4.50000 (USD); Weight: 5g; Voltage Rating: 3.7V; Capacity: 40mAh; Termination: Connector; ComponentLink1URL: http://cdn.sparkfun.com/datasheets/Prototyping/SPE-00-301120-40mah-en-1.0ver.pdf?src-supplier=Digi-Key; ComponentLink1Description: http://cdn.sparkfun.com/datasheets/Prototyping/SPE-00-301120-40mah-en-1.0ver.pdf?src-supplier=Digi-Key; Supplier Part Number 1: 1568-1496-ND
footprint JUMPER_BATTERY
pins: 1 V+, 2 V-

## LED_0402(1005)
designator D?
LED, 0402(1005) SMD
footprint LED_0402 (0402 w/ LED mark)
pins: A, K

## LTC4124
designator U?
Power Supply Support Circuit, Adjustable, 1 Channel, CMOS; Manufacturer: Analog Devices; Manufacturer Part Number: LTC4124EV#TRMPBF; Supplier 1: Digi-Key; Supplier Part Number 1: LTC4124EV#TRMPBFCT-ND; RoHS: Yes; Category: Battery Management; Pricing 1: 1=6.36000, 10=5.74300, 25=5.47600, 100=4.75470, 250=4.54104 (USD); ComponentLink1URL: https://datasheet.ciiva.com:443/pdfs/VipMasterIC/IC/ANDI/ANDI-S-A0007901877/ANDI-S-A0007901877-1.pdf?src-supplier=IHS+Markit; ComponentLink1Description: https://datasheet.ciiva.com:443/pdfs/VipMasterIC/IC/ANDI/ANDI-S-A0007901877/ANDI-S-A0007901877-1.pdf?src-supplier=IHS+Markit
footprint 12-LQFN (12-LQFN Exposed Pad)
pins: 1 VCC, 2 ~{CHRG}, 3 PRECHG, 4 VSEL1, 5 VSEL2, 6 ISEL1, 7 ISEL2, 8 LBSEL, 9 NTC, 10 BAT, 11 ACIN, 12 DCIN, 13 GND

## M2/2-56 Mounting Hole
designator J?
footprint Mounting Hole (M2 or 2-56 Mounting Hole)

## MAGNET MOUNT 1MM
designator J?
footprint MAGNET_MOUNT (1MM MAGNET CUBE FOOTPRINT)

## MAX17043G
designator U?
Manufacturer: Maxim; Manufacturer Part Number: MAX17043G+T; Description 1: IC 2-WIRE FG MODEL GAUGE LO BATT; Supplier 1: Mouser; Supplier Part Number 1: 700-MAX17043G+T; Stock 1: 10717; Pricing 1: 1=3.67, 10=3.52, 50=1.85, 100=1.7, 1000=1.66, 10000=1.66 (USD); Mount: Surface Mount; Number of Pins: 8; Contact Plating: Tin,Matte; Min Operating Temperature: -20°C; Max Operating Temperature: 70°C; Packaging: Tape and Reel; Package Quantity: 10000; Radiation Hardening: No; ComponentLink1URL: https://datasheet.ciiva.com/1935/max17043-max17044-1935697.pdf; ComponentLink1Description: https://datasheet.ciiva.com/1935/max17043-max17044-1935697.pdf
footprint TDFN-MN8 (SON, 8-Leads, Body 2x3mm, Pitch 0.5mm, Microchip Recommended)
pins: 1 CTG, 2 CELL, 3 VDD, 4 GND, 5 ALRT, 6 QSTRT, 7 SCL, 8 SDA, 9 EP

## MAX30003CTI+
designator U?
Analog Circuit, 1 Func, CMOS; Manufacturer: Maxim; Manufacturer Part Number: MAX30003CTI+; Min Supply Voltage: 1.2V; Max Supply Voltage: 2V; Supplier 1: Digi-Key; Supplier Part Number 1: MAX30003CTI+-ND; RoHS: No; Category: RF Semiconductors and Devices; Stock 1: 286; Pricing 1: 1=8.21000, 10=7.41200, 25=7.06760, 100=5.86090, 250=5.34380, 500=4.99902, 1000=4.98888 (USD); Number of Pins: 28; Min Operating Temperature: 0°C; Max Operating Temperature: 70°C; REACH SVHC: No SVHC; ComponentLink1URL: https://datasheet.ciiva.com:443/pdfs/VipMasterIC/IC/MAXM/MAXM-S-A0009086108/MAXM-S-A0009086108-1.pdf?src-supplier=IHS+Markit; ComponentLink1Description: https://datasheet.ciiva.com:443/pdfs/VipMasterIC/IC/MAXM/MAXM-S-A0009086108/MAXM-S-A0009086108-1.pdf?src-supplier=IHS+Markit; ComponentLink2URL: http://www.farnell.com/datasheets/2159846.pdf?src-supplier=Farnell; ComponentLink2Description: http://www.farnell.com/datasheets/2159846.pdf?src-supplier=Farnell; ComponentLink3URL: https://pdfserv.maximintegrated.com/en/an/MAX-ECG-MONITOR-User-Guide.pdf?src-supplier=Digi-Key; ComponentLink3Description: https://pdfserv.maximintegrated.com/en/an/MAX-ECG-MONITOR-User-Guide.pdf?src-supplier=Digi-Key; ComponentLink4URL: http://www.farnell.com/datasheets/2159846.pdf?src-supplier=Element14; ComponentLink4Description: http://www.farnell.com/datasheets/2159846.pdf?src-supplier=Element14
footprint QFN50P500X500X80-29N
pins: 3 AGND (power), 6 ECGP (in), 7 ECGN (in), 8 AGND (power), 9 CAPP (in), 10 CAPN (in), 11 CPLL (in), 12 DGND (power), 13 DVDD (power), 14 FCLK (in), 15 CSB (in), 16 SCLK (in), 17 SDI (in), 18 SDO (out), 19 OVDD (power), 20 INT2B (out), 21 INTB (out), 22 AVDD (power), 23 VREF (out), 25 VCM (out), 27 VBG (out), 28 AGND (power), 29 AGND (power)

## OSCILLATOR_32K768
designator Y?, comment OSCILLATOR-32.768KHZ  (value not drawn)
Oscillator Xo 0.032768MHZ ±25PPM 15PF Lvcmos/lvttl 55% 1.8V 4-PIN Csmd T/r; Manufacturer: Diodes; Manufacturer Part Number: KX2013B0032.768000; Max Supply Current: 30uA; Max Supply Voltage: 1.89V; Min Supply Voltage: 1.71V; Supplier 1: Digi-Key; Supplier Part Number 1: 31-KX2013B0032.768000CT-ND; RoHS: Yes; Category: Oscillators; Stock 1: 1562; Pricing 1: 1=3.22000, 10=3.14700, 50=2.99700, 100=2.62240, 500=2.54746, 1000=2.17283 (USD); Mount: Surface Mount; Case/Package: SMD/SMT; Min Operating Temperature: -20°C; Max Operating Temperature: 70°C; Frequency Stability: 25ppm; Termination: SMD/SMT; Max Duty Cycle: 55%; Frequency: 32.768kHz; Load Capacitance: 15pF; Packaging: Cut Strip; Package Quantity: 100; Operating Supply Voltage: 1.8V; Length: 0.079inch; Height: 0.033inch; Width: 0.063inch; ComponentLink1URL: http://www.mouser.com/ds/2/322/KX201-Rev-A-461590.pdf?src-supplier=Mouser; ComponentLink1Description: http://www.mouser.com/ds/2/322/KX201-Rev-A-461590.pdf?src-supplier=Mouser; ComponentLink2URL: https://www.pericom.com/assets/Datasheets/KX201.pdf?src-supplier=Digi-Key; ComponentLink2Description: https://www.pericom.com/assets/Datasheets/KX201.pdf?src-supplier=Digi-Key; ComponentLink3URL: https://www.diodes.com/assets/Datasheets/KX201.pdf?src-supplier=Digi-Key; ComponentLink3Description: https://www.diodes.com/assets/Datasheets/KX201.pdf?src-supplier=Digi-Key
footprint OSCILLATOR_4-SMD (2.0 MM X 1.6 MM X 0.75 MM, 4-SMD)
pins: 1 OE (in), 2 GND (power), 3 OUTPUT, 4 VDD (power)

## R-0201(0603)
designator R?
___ OHM ___ mW 0201(0603) SMD
footprint R0201 (Experimental)
pins: 1, 2

## R-0402(1005)
designator R?
___ OHM ___ mW 0402(1005) SMD
footprint R0402
pins: 1, 2

## S1751-46R
designator TP?  (value not drawn)
PC TEST POINT TIN SMD; Manufacturer: Harwin Inc.; Supplier 1: Digi-Key; RoHS: RoHS Compliant; Stock 1: 275112; Pricing 1: 1=0.29, 10=0.272, 25=0.2324, 50=0.2032, 100=0.1888, 250=0.167, 500=0.15972, 1000=0.13068 (USD); Packaging: Cut Tape (CT); Type: PC Test Point; Terminal: 0.128" x 0.065" x 0.079" (3.25mm x 1.65mm x 2.00mm) Brass, Tin Plated; Mounting Type: Surface Mount; Material: Copper Alloy; Color: Natural; ComponentLink1URL: http://cdn.harwin.com/pdfs/S1751.pdf; ComponentLink1Description: http://cdn.harwin.com/pdfs/S1751.pdf; Supplier Part Number 1: 952-1478-1-ND; Manufacturer Part Number: S1751-46R; Category: Test and Measurement
footprint S1751-46R (PC TEST POINT TIN SMD)
pins: 1

## S-1318A30-M5T1U4
designator U?
Fixed Positive LDO Regulator; Manufacturer: ABLIC; Manufacturer Part Number: S-1318A30-M5T1U4; Supplier 1: Digi-Key; Supplier Part Number 1: 1662-S-1318A30-M5T1U4CT-ND; RoHS: Yes
footprint SOT-23-5 (SOT23, 5-Leads, Body 2.9x1.6mm, Pitch 0.95mm, Lead Span 2.8mm, IPC Low Density)
pins: 1 VIN, 2 VSS, 3 EN, 4 NC, 5 VOUT

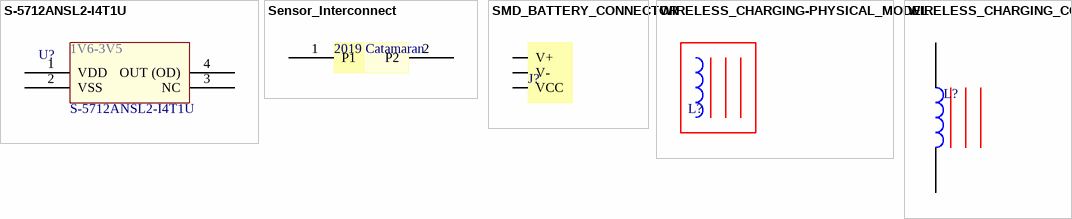
[diagram p1: symbols S-5712ANSL2-I4T1U to WIRELESS_CHARGING_COIL]

## S-5712ANSL2-I4T1U
designator U?
Digital Switch Unipolar Switch Open Drain Hall Effect SNT-4A; Manufacturer: ABLIC; DigikeyPartNumber: 1662-1617-1-ND; MfgPartNumber: S-5712ANSL2-I4T1U
footprint SNT-4A (4-pin 1.2x1.6x0.5mm for S5712 series Hall Effect Sensors)
pins: 1 VDD, 2 VSS, 3 NC, 4 OUT (OD)
text: 1V6-3V5

## Sensor_Interconnect
designator 2019 Catamaran, comment Sensor Interconnect Pads  (value not drawn)
Hole Pads for sensor interconnect solder pads
footprint Sensor_Interconnect_Pad (Solder PAD for sensor interconnects)
pins: 1 P1, 2 P2

## SMD_BATTERY_CONNECTOR
designator J?, comment SMD CONNECTOR FOR 40 mAh BATTERY  (value not drawn)
Lithium Battery 3.7V 40mAh Rechargeable
footprint battery_connector (SMD Battery connector)
pins: 1 V+ (power), 2 V- (power), 3 VCC (power)

## WIRELESS_CHARGING-PHYSICAL_MODEL
designator L?, comment WIRELESS CHARGING COIL, RECEIVER  (value not drawn)
Inductor
footprint 760308101219 - Physical Model (Wurth Wireless Inductive Coil)

## WIRELESS_CHARGING_COIL
designator L?, comment WIRELESS CHARGING COIL, RECEIVER  (value not drawn)
Inductor
footprint 760308101219 (WE-WPCC WIRELESS POWER TRANSFER RECEIVER COIL)
pins: 1, 2